# Altium footprint library kwa.PcbLib: 4 footprints
Each footprint in its own frame and in the unit in brackets; x right, y up, seen from the top. Pads: shape width x height; smd on the part's side, far side on the other; paste and mask are expansions set on the pad; w line width, h text height; cw(c..) or ccw(c..) is an arc to the next point about the centre after c.
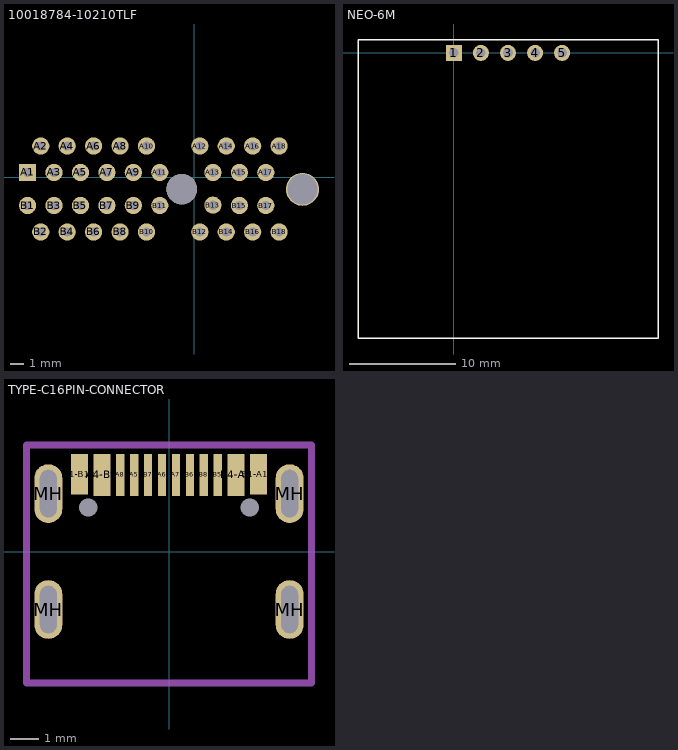
[diagram p0: the footprints below, top view; thin cyan lines are the x and y axes]

## 10018784-10210TLF [mm] "36 Position Female Connector PCI Express™ Gold 0.039\" (1.00mm) Black"
pads (38):
  rect 1.3x1.3 hole 0.7: A1(-12.595,0.353)
  round 1.3 hole 0.7: A2(-11.599,2.353) A3(-10.595,0.353) A4(-9.599,2.353) A5(-8.595,0.353) A6(-7.599,2.353) A7(-6.595,0.353) A8(-5.599,2.353) A9(-4.595,0.353) A10(-3.599,2.353) A11(-2.595,0.353) A12(0.434,2.353) A13(1.425,0.353) A14(2.434,2.353) A15(3.425,0.353) A16(4.434,2.353) A17(5.425,0.353) A18(6.434,2.353) B1(-12.595,-2.147) B2(-11.599,-4.147) B3(-10.595,-2.147) B4(-9.599,-4.147) B5(-8.595,-2.147) B6(-7.599,-4.147) B7(-6.595,-2.147) B8(-5.599,-4.147) B9(-4.595,-2.147) B10(-3.599,-4.147) B11(-2.595,-2.147) B12(0.434,-4.147) B13(1.425,-2.118) B14(2.434,-4.147) B15(3.425,-2.147) B16(4.434,-4.147) B17(5.425,-2.147) B18(6.434,-4.147)
  round 2.3 hole 2.3: ""(-0.938,-0.902)
  round 2.5 hole 2.3: ""(8.201,-0.921)
3D body "10018784-10210TLF--3DModel-STEP-56544.STEP": height 11, standoff -4.4, extent -15.584,-6.002 9.416,2.798

## NEO-6M [mm] "GPS Module"
pads (5):
  rect 1.5x1.5 hole 0.9: 1(0,0)
  round 1.5 hole 0.9: 2(2.54,0) 3(5.08,0) 4(7.62,0) 5(10.16,0)
Top Overlay:
  lines w0.127: -9,-26.778 -9,1.222 ; -9,-26.776 19.16,-26.776 19.16,1.227 -8.942,1.227 -9,1.227

## PCBComponent_1 [mm]

## TYPE-C16PIN-CONNECTOR [mm]
pads (18):
  rect 0.6x1.449 smd paste+0: A1-B12(-3.2,2.77) B1-A12(3.2,2.77)
  rect 0.6x1.5 smd paste+0: A4-B9(-2.4,2.745) B4-A9(2.4,2.745)
  rect 0.3x1.5 smd paste+0: A5(-1.25,2.745) A6(-0.25,2.745) A7(0.25,2.745) A8(-1.75,2.745) B5(1.75,2.745) B6(0.75,2.745) B7(-0.75,2.745) B8(1.25,2.745)
  oval 1x2.1 hole 0.6 slot 1.7 at 90 deg paste+0: MH(-4.32,-2.075) MH(-4.32,2.075) MH(4.32,-2.075) MH(4.32,2.075)
  rect 0x0 hole 0.65 paste+0: MH(-2.89,1.575) MH(2.89,1.575)
Mechanical 13:
  lines w0.254: -5.1,-4.7 5.1,-4.7 5.1,3.81 -5.1,3.81 -5.1,-4.7
3D body "usb-c.stp": height 4.7, standoff -1.65, extent -6.096,-65.71 6.104,0.076
3D body "C393939.STEP": height 3.18, standoff -0.78, extent -4.47,-4.7 4.47,2.98